# Altium schematic symbol library Screws_Mounts.SchLib: 3 symbols
Pins are listed as number, name and electrical type; pins without a type are passive.

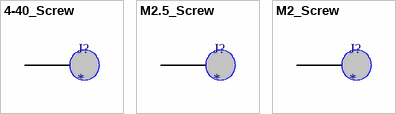
[diagram p0: symbols 4-40_Screw to M2_Screw]

## 4-40_Screw
designator J?
footprint 4-40_Mount
pins: 0

## M2.5_Screw
designator J?
footprint M2.5_Mount_NPT
pins: 0

## M2_Screw
designator J?
footprint M2_Mount_PLATED
footprint M2_Mount
pins: 0